# EAGLE library part DS18S20Z+ (library brewbox-components)
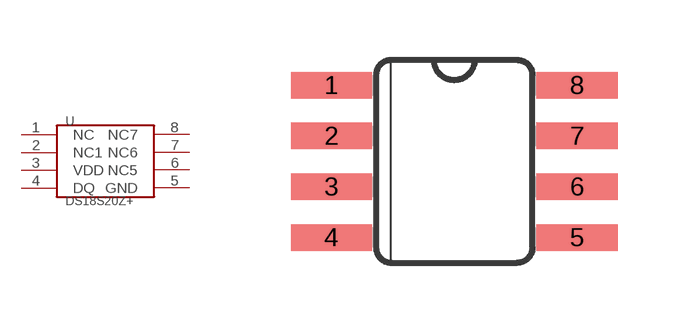
[diagram p21: symbol with the pads of SOIC-8; footprint SOIC-8]

Designator prefix U

## DS18S20Z+  [SOIC-8]
1  NC
2  NC1
3  VDD
4  DQ
5  GND
6  NC5
7  NC6
8  NC7

## Footprint SOIC-8 (pad centres in mm)
smd 2.032 x 0.66: 1 -3.073,1.27; 2 -3.073,0; 3 -3.073,-1.27; 4 -3.073,-2.54; 5 3.073,-2.54; 6 3.073,-1.27; 7 3.073,0; 8 3.073,1.27